# Altium integrated library TI Power Management Special Function.IntLib: 97 symbols (part 1 of 7)
Pins are listed as number, name and electrical type; pins without a type are passive.

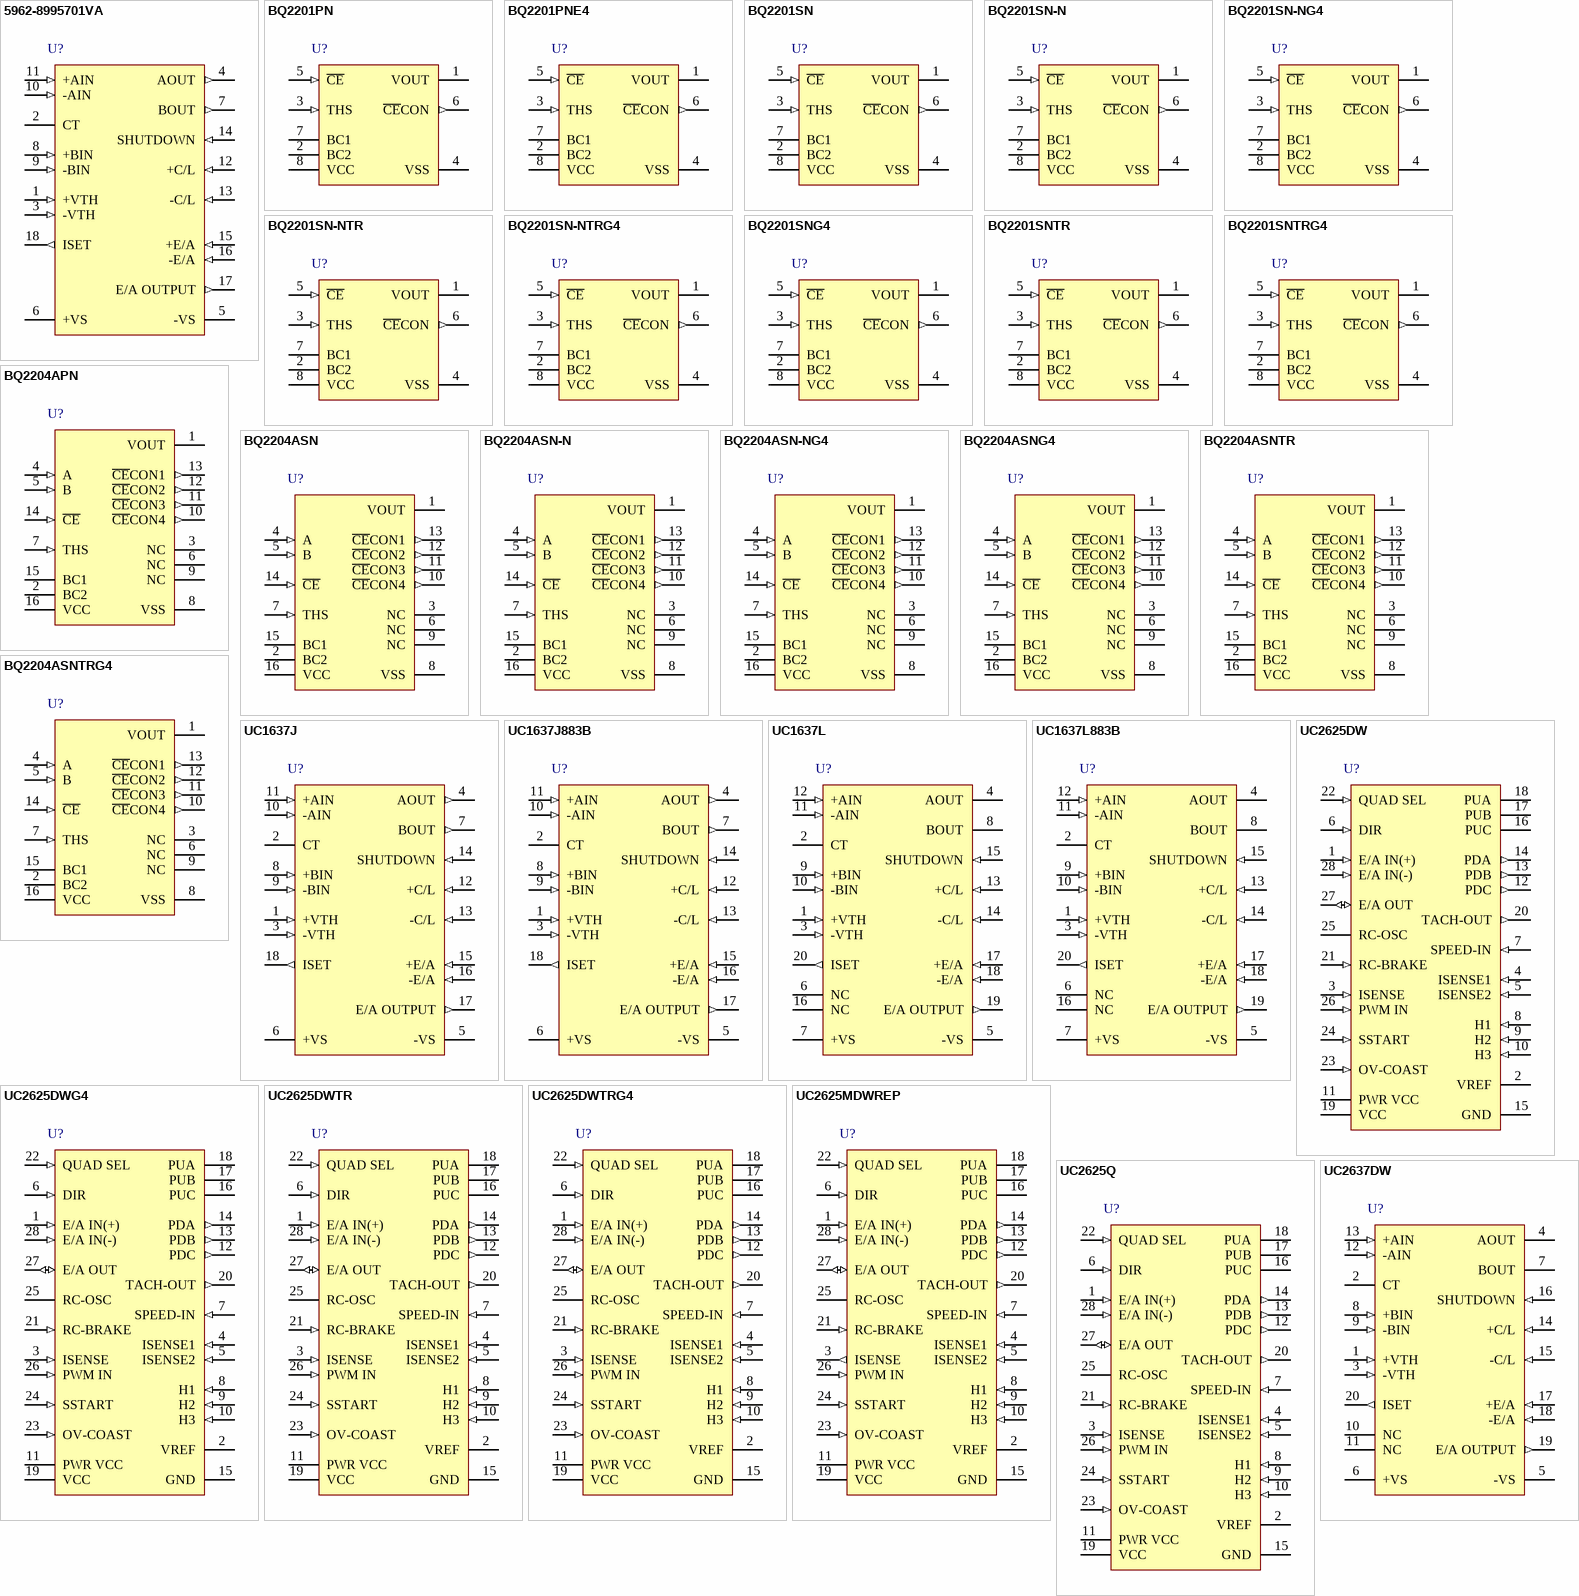
[diagram p0: symbols 5962-8995701VA to UC2637DW]

## 5962-8995701VA
designator U?
Switched Mode Controller for DC Motor Drive, 36 V Operating Supply, -55 to 125 degC, 18-pin CDIP (J); Manufacturer: Texas Instruments; PartNumber: 5962-8995701VA; Current-Limited: TRUE; Eco-Plan: TBD; Operating Supply Current(mA): 8.5; Operating Supply(Max)(V): 36; Operating Supply(Min)(V): 5; Peak Output Current(A): 0.4; SubFamily: Motion/Motor Control; DatasheetVersion: SLUS283; PackageVersion: revF, Mar-2003; PackageReference: J18; PackageDescription: 18-Pin, Ceramic Dual In-Line Package, Row Spacing 7.62 mm, Pitch 2.54 mm; DC Motor Control: TRUE; Switching Control: TRUE; Mounting Technology: Through Hole; ComponentLink1Description: Datasheet; ComponentLink1URL: http://www.ti.com/general/docs/lit/getliterature.tsp?genericPartNumber=UC1637&fileType=pdf
footprint J18 (DIP, 18-Leads, Row Spacing 7.62mm, Pitch 2.54mm, Body 24.1x6.7mm)
pins: 1 +VTH (in), 2 CT, 3 -VTH (in), 4 AOUT (out), 5 -VS (power), 6 +VS (power), 7 BOUT (out), 8 +BIN (in), 9 -BIN (in), 10 -AIN (in), 11 +AIN (in), 12 +C/L (in), 13 -C/L (in), 14 SHUTDOWN (in), 15 +E/A (in), 16 -E/A (in), 17 E/A OUTPUT (out), 18 ISET (out)

## BQ2201PN
designator U?
SRAM Nonvolatile Controller IC for 1 SRAM Bank, 0 to 70 degC, 8-pin PDIP (P), Pb-Free (RoHS); Manufacturer: Texas Instruments; PartNumber: BQ2201PN; Controller: TRUE; SubFamily: NVSRAM (Non-Volatile SRAM); DatasheetVersion: SLUS143; PackageVersion: revE, Apr-2010; PackageReference: P8; PackageDescription: 8-Pin Plastic Dual-In-Line Package, Row Spacing 7.62 mm, Pitch 2.54 mm; Supplier 1: Digi-Key; Supplier Part Number 1: 296-9369-5-ND; Supplier 2: Newark; Supplier Part Number 2: 74C7618; Supplier 3: Mouser; Supplier Part Number 3: 595-BQ2201PN; Eco-Plan: Pb-Free (RoHS); Mounting Technology: Through Hole; Code_JEDEC: MS-001-BA; ComponentLink1Description: Datasheet; ComponentLink1URL: http://www.ti.com/general/docs/lit/getliterature.tsp?genericPartNumber=BQ2201&fileType=pdf
footprint P8 (DIP, 8-Leads, Row Spacing 7.62mm, Pitch 2.54mm, Body 9.6x6.4mm)
pins: 1 VOUT (power) "Supply output", 2 BC2 (power) "3-volt primary backup cell inputs", 3 THS (in) "Threshold select input", 4 VSS (power) "Ground", 5 ~{CE} (in) "chip-enable active low input", 6 ~{CE}CON (out) "Conditioned chip-enable output", 7 BC1 (power) "3-volt primary backup cell inputs", 8 VCC (power) "+5-volt supply input"

## BQ2201PNE4
designator U?
SRAM Nonvolatile Controller IC for 1 SRAM Bank, 0 to 70 degC, 8-pin PDIP (P), Pb-Free (RoHS); Manufacturer: Texas Instruments; PartNumber: BQ2201PNE4; Controller: TRUE; SubFamily: NVSRAM (Non-Volatile SRAM); DatasheetVersion: SLUS143; PackageVersion: revE, Apr-2010; PackageReference: P8; PackageDescription: 8-Pin Plastic Dual-In-Line Package, Row Spacing 7.62 mm, Pitch 2.54 mm; Supplier 1: Digi-Key; Supplier Part Number 1: BQ2201PNE4-ND; Supplier 2: Newark; Supplier Part Number 2: 20M5006; Supplier 3: Mouser; Supplier Part Number 3: 595-BQ2201PNE4; Eco-Plan: Pb-Free (RoHS); Mounting Technology: Through Hole; Code_JEDEC: MS-001-BA; ComponentLink1Description: Datasheet; ComponentLink1URL: http://www.ti.com/general/docs/lit/getliterature.tsp?genericPartNumber=BQ2201&fileType=pdf
footprint P8 (DIP, 8-Leads, Row Spacing 7.62mm, Pitch 2.54mm, Body 9.6x6.4mm)
pins: 1 VOUT (power) "Supply output", 2 BC2 (power) "3-volt primary backup cell inputs", 3 THS (in) "Threshold select input", 4 VSS (power) "Ground", 5 ~{CE} (in) "chip-enable active low input", 6 ~{CE}CON (out) "Conditioned chip-enable output", 7 BC1 (power) "3-volt primary backup cell inputs", 8 VCC (power) "+5-volt supply input"

## BQ2201SN
designator U?
SRAM Nonvolatile Controller IC for 1 SRAM Bank, 0 to 70 degC, 8-pin SOIC (D), Green (RoHS & no Sb / Br); Manufacturer: Texas Instruments; PartNumber: BQ2201SN; Controller: TRUE; SubFamily: NVSRAM (Non-Volatile SRAM); DatasheetVersion: SLUS143; PackageVersion: revM, Jun-2011; PackageReference: D8; PackageDescription: 8-Pin Plastic Small Outline Integrated Circuit, 4.9 x 3.9 mm, Pitch 1.27 mm Pitch; Supplier 1: Digi-Key; Supplier Part Number 1: 296-9370-5-ND; Supplier 2: Farnell; Supplier Part Number 2: 1754748; Supplier 3: Newark; Supplier Part Number 3: 46M3116; Supplier 4: Mouser; Supplier Part Number 4: 595-BQ2201SN; Eco-Plan: Green (RoHS & no Sb/Br); Mounting Technology: Surface Mount; Code_JEDEC: MS-012AA; ComponentLink1Description: Datasheet; ComponentLink1URL: http://www.ti.com/general/docs/lit/getliterature.tsp?genericPartNumber=BQ2201&fileType=pdf
footprint D8_N (SOIC, 8-Leads, Body 4.9x3.9mm, Pitch 1.27mm, IPC Medium Density)
footprint D8_L (SOIC, 8-Leads, Body 4.9x3.9mm, Pitch 1.27mm, IPC High Density)
footprint D8_M (SOIC, 8-Leads, Body 4.9x3.9mm, Pitch 1.27mm, IPC Low Density)
pins: 1 VOUT (power) "Supply output", 2 BC2 (power) "3-volt primary backup cell inputs", 3 THS (in) "Threshold select input", 4 VSS (power) "Ground", 5 ~{CE} (in) "chip-enable active low input", 6 ~{CE}CON (out) "Conditioned chip-enable output", 7 BC1 (power) "3-volt primary backup cell inputs", 8 VCC (power) "+5-volt supply input"

## BQ2201SN-N
designator U?
SRAM Nonvolatile Controller IC for 1 SRAM Bank, -40 to 85 degC, 8-pin SOIC (D), Green (RoHS & no Sb / Br); Manufacturer: Texas Instruments; PartNumber: BQ2201SN-N; Controller: TRUE; SubFamily: NVSRAM (Non-Volatile SRAM); DatasheetVersion: SLUS143; PackageVersion: revM, Jun-2011; PackageReference: D8; PackageDescription: 8-Pin Plastic Small Outline Integrated Circuit, 4.9 x 3.9 mm, Pitch 1.27 mm Pitch; Supplier 1: Digi-Key; Supplier Part Number 1: BQ2201SN-N-ND; Supplier 2: Newark; Supplier Part Number 2: 74C7621; Supplier 3: Mouser; Supplier Part Number 3: 595-BQ2201SN-N; Eco-Plan: Green (RoHS & no Sb/Br); Mounting Technology: Surface Mount; Code_JEDEC: MS-012AA; ComponentLink1Description: Datasheet; ComponentLink1URL: http://www.ti.com/general/docs/lit/getliterature.tsp?genericPartNumber=BQ2201&fileType=pdf
footprint D8_N (SOIC, 8-Leads, Body 4.9x3.9mm, Pitch 1.27mm, IPC Medium Density)
footprint D8_L (SOIC, 8-Leads, Body 4.9x3.9mm, Pitch 1.27mm, IPC High Density)
footprint D8_M (SOIC, 8-Leads, Body 4.9x3.9mm, Pitch 1.27mm, IPC Low Density)
pins: 1 VOUT (power) "Supply output", 2 BC2 (power) "3-volt primary backup cell inputs", 3 THS (in) "Threshold select input", 4 VSS (power) "Ground", 5 ~{CE} (in) "chip-enable active low input", 6 ~{CE}CON (out) "Conditioned chip-enable output", 7 BC1 (power) "3-volt primary backup cell inputs", 8 VCC (power) "+5-volt supply input"

## BQ2201SN-NG4
designator U?
SRAM Nonvolatile Controller IC for 1 SRAM Bank, -40 to 85 degC, 8-pin SOIC (D), Green (RoHS & no Sb / Br); Manufacturer: Texas Instruments; PartNumber: BQ2201SN-NG4; Controller: TRUE; SubFamily: NVSRAM (Non-Volatile SRAM); DatasheetVersion: SLUS143; PackageVersion: revM, Jun-2011; PackageReference: D8; PackageDescription: 8-Pin Plastic Small Outline Integrated Circuit, 4.9 x 3.9 mm, Pitch 1.27 mm Pitch; Supplier 1: Digi-Key; Supplier Part Number 1: BQ2201SN-NG4-ND; Supplier 2: Newark; Supplier Part Number 2: 18M1767; Supplier 3: Mouser; Supplier Part Number 3: 595-BQ2201SN-NG4; Eco-Plan: Green (RoHS & no Sb/Br); Mounting Technology: Surface Mount; Code_JEDEC: MS-012AA; ComponentLink1Description: Datasheet; ComponentLink1URL: http://www.ti.com/general/docs/lit/getliterature.tsp?genericPartNumber=BQ2201&fileType=pdf
footprint D8_N (SOIC, 8-Leads, Body 4.9x3.9mm, Pitch 1.27mm, IPC Medium Density)
footprint D8_L (SOIC, 8-Leads, Body 4.9x3.9mm, Pitch 1.27mm, IPC High Density)
footprint D8_M (SOIC, 8-Leads, Body 4.9x3.9mm, Pitch 1.27mm, IPC Low Density)
pins: 1 VOUT (power) "Supply output", 2 BC2 (power) "3-volt primary backup cell inputs", 3 THS (in) "Threshold select input", 4 VSS (power) "Ground", 5 ~{CE} (in) "chip-enable active low input", 6 ~{CE}CON (out) "Conditioned chip-enable output", 7 BC1 (power) "3-volt primary backup cell inputs", 8 VCC (power) "+5-volt supply input"

## BQ2201SN-NTR
designator U?
SRAM Nonvolatile Controller IC for 1 SRAM Bank, -40 to 85 degC, 8-pin SOIC (D), Green (RoHS & no Sb / Br); Manufacturer: Texas Instruments; PartNumber: BQ2201SN-NTR; Controller: TRUE; SubFamily: NVSRAM (Non-Volatile SRAM); DatasheetVersion: SLUS143; PackageVersion: revM, Jun-2011; PackageReference: D8; PackageDescription: 8-Pin Plastic Small Outline Integrated Circuit, 4.9 x 3.9 mm, Pitch 1.27 mm Pitch; Supplier 1: Digi-Key; Supplier Part Number 1: BQ2201SN-NTR-ND; Supplier 2: Newark; Supplier Part Number 2: 74C7622; Supplier 3: Mouser; Supplier Part Number 3: 595-BQ2201SN-NTR; Eco-Plan: Green (RoHS & no Sb/Br); Mounting Technology: Surface Mount; Code_JEDEC: MS-012AA; ComponentLink1Description: Datasheet; ComponentLink1URL: http://www.ti.com/general/docs/lit/getliterature.tsp?genericPartNumber=BQ2201&fileType=pdf
footprint D8_N (SOIC, 8-Leads, Body 4.9x3.9mm, Pitch 1.27mm, IPC Medium Density)
footprint D8_L (SOIC, 8-Leads, Body 4.9x3.9mm, Pitch 1.27mm, IPC High Density)
footprint D8_M (SOIC, 8-Leads, Body 4.9x3.9mm, Pitch 1.27mm, IPC Low Density)
pins: 1 VOUT (power) "Supply output", 2 BC2 (power) "3-volt primary backup cell inputs", 3 THS (in) "Threshold select input", 4 VSS (power) "Ground", 5 ~{CE} (in) "chip-enable active low input", 6 ~{CE}CON (out) "Conditioned chip-enable output", 7 BC1 (power) "3-volt primary backup cell inputs", 8 VCC (power) "+5-volt supply input"

## BQ2201SN-NTRG4
designator U?
SRAM Nonvolatile Controller IC for 1 SRAM Bank, -40 to 85 degC, 8-pin SOIC (D), Green (RoHS & no Sb / Br); Manufacturer: Texas Instruments; PartNumber: BQ2201SN-NTRG4; Controller: TRUE; SubFamily: NVSRAM (Non-Volatile SRAM); DatasheetVersion: SLUS143; PackageVersion: revM, Jun-2011; PackageReference: D8; PackageDescription: 8-Pin Plastic Small Outline Integrated Circuit, 4.9 x 3.9 mm, Pitch 1.27 mm Pitch; Supplier 1: Digi-Key; Supplier Part Number 1: BQ2201SN-NTRG4-ND; Supplier 2: Newark; Supplier Part Number 2: 03M6535; Supplier 3: Mouser; Supplier Part Number 3: 595-BQ2201SN-NTRG4; Eco-Plan: Green (RoHS & no Sb/Br); Mounting Technology: Surface Mount; Code_JEDEC: MS-012AA; ComponentLink1Description: Datasheet; ComponentLink1URL: http://www.ti.com/general/docs/lit/getliterature.tsp?genericPartNumber=BQ2201&fileType=pdf
footprint D8_N (SOIC, 8-Leads, Body 4.9x3.9mm, Pitch 1.27mm, IPC Medium Density)
footprint D8_L (SOIC, 8-Leads, Body 4.9x3.9mm, Pitch 1.27mm, IPC High Density)
footprint D8_M (SOIC, 8-Leads, Body 4.9x3.9mm, Pitch 1.27mm, IPC Low Density)
pins: 1 VOUT (power) "Supply output", 2 BC2 (power) "3-volt primary backup cell inputs", 3 THS (in) "Threshold select input", 4 VSS (power) "Ground", 5 ~{CE} (in) "chip-enable active low input", 6 ~{CE}CON (out) "Conditioned chip-enable output", 7 BC1 (power) "3-volt primary backup cell inputs", 8 VCC (power) "+5-volt supply input"

## BQ2201SNG4
designator U?
SRAM Nonvolatile Controller IC for 1 SRAM Bank, 0 to 70 degC, 8-pin SOIC (D), Green (RoHS & no Sb / Br); Manufacturer: Texas Instruments; PartNumber: BQ2201SNG4; Controller: TRUE; SubFamily: NVSRAM (Non-Volatile SRAM); DatasheetVersion: SLUS143; PackageVersion: revM, Jun-2011; PackageReference: D8; PackageDescription: 8-Pin Plastic Small Outline Integrated Circuit, 4.9 x 3.9 mm, Pitch 1.27 mm Pitch; Supplier 1: Digi-Key; Supplier Part Number 1: BQ2201SNG4-ND; Supplier 2: Newark; Supplier Part Number 2: 28M4690; Supplier 3: Mouser; Supplier Part Number 3: 595-BQ2201SNG4; Eco-Plan: Green (RoHS & no Sb/Br); Mounting Technology: Surface Mount; Code_JEDEC: MS-012AA; ComponentLink1Description: Datasheet; ComponentLink1URL: http://www.ti.com/general/docs/lit/getliterature.tsp?genericPartNumber=BQ2201&fileType=pdf
footprint D8_N (SOIC, 8-Leads, Body 4.9x3.9mm, Pitch 1.27mm, IPC Medium Density)
footprint D8_L (SOIC, 8-Leads, Body 4.9x3.9mm, Pitch 1.27mm, IPC High Density)
footprint D8_M (SOIC, 8-Leads, Body 4.9x3.9mm, Pitch 1.27mm, IPC Low Density)
pins: 1 VOUT (power) "Supply output", 2 BC2 (power) "3-volt primary backup cell inputs", 3 THS (in) "Threshold select input", 4 VSS (power) "Ground", 5 ~{CE} (in) "chip-enable active low input", 6 ~{CE}CON (out) "Conditioned chip-enable output", 7 BC1 (power) "3-volt primary backup cell inputs", 8 VCC (power) "+5-volt supply input"

## BQ2201SNTR
designator U?
SRAM Nonvolatile Controller IC for 1 SRAM Bank, 0 to 70 degC, 8-pin SOIC (D), Green (RoHS & no Sb / Br); Manufacturer: Texas Instruments; PartNumber: BQ2201SNTR; Controller: TRUE; SubFamily: NVSRAM (Non-Volatile SRAM); DatasheetVersion: SLUS143; PackageVersion: revM, Jun-2011; PackageReference: D8; PackageDescription: 8-Pin Plastic Small Outline Integrated Circuit, 4.9 x 3.9 mm, Pitch 1.27 mm Pitch; Supplier 1: Digi-Key; Supplier Part Number 1: BQ2201SNTR-ND; Supplier 2: Newark; Supplier Part Number 2: 74C7623; Supplier 3: Mouser; Supplier Part Number 3: 595-BQ2201SNTR; Eco-Plan: Green (RoHS & no Sb/Br); Mounting Technology: Surface Mount; Code_JEDEC: MS-012AA; ComponentLink1Description: Datasheet; ComponentLink1URL: http://www.ti.com/general/docs/lit/getliterature.tsp?genericPartNumber=BQ2201&fileType=pdf
footprint D8_N (SOIC, 8-Leads, Body 4.9x3.9mm, Pitch 1.27mm, IPC Medium Density)
footprint D8_L (SOIC, 8-Leads, Body 4.9x3.9mm, Pitch 1.27mm, IPC High Density)
footprint D8_M (SOIC, 8-Leads, Body 4.9x3.9mm, Pitch 1.27mm, IPC Low Density)
pins: 1 VOUT (power) "Supply output", 2 BC2 (power) "3-volt primary backup cell inputs", 3 THS (in) "Threshold select input", 4 VSS (power) "Ground", 5 ~{CE} (in) "chip-enable active low input", 6 ~{CE}CON (out) "Conditioned chip-enable output", 7 BC1 (power) "3-volt primary backup cell inputs", 8 VCC (power) "+5-volt supply input"

## BQ2201SNTRG4
designator U?
SRAM Nonvolatile Controller IC for 1 SRAM Bank, 0 to 70 degC, 8-pin SOIC (D), Green (RoHS & no Sb / Br); Manufacturer: Texas Instruments; PartNumber: BQ2201SNTRG4; Controller: TRUE; SubFamily: NVSRAM (Non-Volatile SRAM); DatasheetVersion: SLUS143; PackageVersion: revM, Jun-2011; PackageReference: D8; PackageDescription: 8-Pin Plastic Small Outline Integrated Circuit, 4.9 x 3.9 mm, Pitch 1.27 mm Pitch; Supplier 1: Digi-Key; Supplier Part Number 1: BQ2201SNTRG4-ND; Supplier 2: Newark; Supplier Part Number 2: 34P3344; Supplier 3: Mouser; Supplier Part Number 3: 595-BQ2201SNTRG4; Eco-Plan: Green (RoHS & no Sb/Br); Mounting Technology: Surface Mount; Code_JEDEC: MS-012AA; ComponentLink1Description: Datasheet; ComponentLink1URL: http://www.ti.com/general/docs/lit/getliterature.tsp?genericPartNumber=BQ2201&fileType=pdf
footprint D8_N (SOIC, 8-Leads, Body 4.9x3.9mm, Pitch 1.27mm, IPC Medium Density)
footprint D8_L (SOIC, 8-Leads, Body 4.9x3.9mm, Pitch 1.27mm, IPC High Density)
footprint D8_M (SOIC, 8-Leads, Body 4.9x3.9mm, Pitch 1.27mm, IPC Low Density)
pins: 1 VOUT (power) "Supply output", 2 BC2 (power) "3-volt primary backup cell inputs", 3 THS (in) "Threshold select input", 4 VSS (power) "Ground", 5 ~{CE} (in) "chip-enable active low input", 6 ~{CE}CON (out) "Conditioned chip-enable output", 7 BC1 (power) "3-volt primary backup cell inputs", 8 VCC (power) "+5-volt supply input"

## BQ2204APN
designator U?
SRAM Nonvolatile Controller IC for 4 SRAM Banks, 0 to 70 degC, 16-pin PDIP (N), Pb-Free (RoHS); Manufacturer: Texas Instruments; PartNumber: BQ2204APN; Controller: TRUE; SubFamily: NVSRAM (Non-Volatile SRAM); DatasheetVersion: SLUS140; PackageVersion: revE, Dec-2002; PackageReference: N16; PackageDescription: 16-Pin Plastic Dual-In-Line Package, Row Spacing 7.62 mm, Pitch 2.54 mm; Supplier 1: Digi-Key; Supplier Part Number 1: 296-9375-5-ND; Supplier 2: Newark; Supplier Part Number 2: 74M8275; Supplier 3: Mouser; Supplier Part Number 3: 595-BQ2204APN; Eco-Plan: Pb-Free (RoHS); Mounting Technology: Through Hole; Code_JEDEC: MS-001*; ComponentLink1Description: Datasheet; ComponentLink1URL: http://www.ti.com/general/docs/lit/getliterature.tsp?genericPartNumber=BQ2204A&fileType=pdf
footprint N16 (DIP, 16-Leads, Row Spacing 7.62mm, Pitch 2.54mm, Body 19.3x6.4mm)
pins: 1 VOUT (power) "Supply output", 2 BC2 (power) "3 volt primary backup cell inputs", 3 NC "No connect", 4 A (in) "Decoder inputs", 5 B (in) "Decoder inputs", 6 NC "No connect", 7 THS (in) "Threshold select input", 8 VSS (power) "Ground", 9 NC "No connect", 10 ~{CE}CON4 (out) "Conditioned chip-enable outputs", 11 ~{CE}CON3 (out) "Conditioned chip-enable outputs", 12 ~{CE}CON2 (out) "Conditioned chip-enable outputs", 13 ~{CE}CON1 (out) "Conditioned chip-enable outputs", 14 ~{CE} (in) "chip-enable active low input", 15 BC1 (power) "3 volt primary backup cell inputs", 16 VCC (power) "+5 volt supply input"

## BQ2204ASN
designator U?
SRAM Nonvolatile Controller IC for 4 SRAM Banks, 0 to 70 degC, 16-pin SOIC (D), Green (RoHS & no Sb / Br); Manufacturer: Texas Instruments; PartNumber: BQ2204ASN; Controller: TRUE; SubFamily: NVSRAM (Non-Volatile SRAM); DatasheetVersion: SLUS140; PackageVersion: revM, Jun-2011; PackageReference: D16; PackageDescription: 16-Pin Plastic Small Outline Integrated Circuit, 9.9 x 3.9 mm, Pitch 1.27 mm Pitch; Supplier 1: Digi-Key; Supplier Part Number 1: 296-9376-5-ND; Supplier 2: Newark; Supplier Part Number 2: 74C7625; Supplier 3: Mouser; Supplier Part Number 3: 595-BQ2204ASN; Eco-Plan: Green (RoHS & no Sb/Br); Mounting Technology: Surface Mount; Code_JEDEC: MS-012AC; ComponentLink1Description: Datasheet; ComponentLink1URL: http://www.ti.com/general/docs/lit/getliterature.tsp?genericPartNumber=BQ2204A&fileType=pdf
footprint D16_N (SOIC, 16-Leads, Body 9.9x3.9mm, Pitch 1.27mm, IPC Medium Density)
footprint D16_L (SOIC, 16-Leads, Body 9.9x3.9mm, Pitch 1.27mm, IPC High Density)
footprint D16_M (SOIC, 16-Leads, Body 9.9x3.9mm, Pitch 1.27mm, IPC Low Density)
pins: 1 VOUT (power) "Supply output", 2 BC2 (power) "3 volt primary backup cell inputs", 3 NC "No connect", 4 A (in) "Decoder inputs", 5 B (in) "Decoder inputs", 6 NC "No connect", 7 THS (in) "Threshold select input", 8 VSS (power) "Ground", 9 NC "No connect", 10 ~{CE}CON4 (out) "Conditioned chip-enable outputs", 11 ~{CE}CON3 (out) "Conditioned chip-enable outputs", 12 ~{CE}CON2 (out) "Conditioned chip-enable outputs", 13 ~{CE}CON1 (out) "Conditioned chip-enable outputs", 14 ~{CE} (in) "chip-enable active low input", 15 BC1 (power) "3 volt primary backup cell inputs", 16 VCC (power) "+5 volt supply input"

## BQ2204ASN-N
designator U?
SRAM Nonvolatile Controller IC for 4 SRAM Banks, -40 to 85 degC, 16-pin SOIC (D), Green (RoHS & no Sb / Br); Manufacturer: Texas Instruments; PartNumber: BQ2204ASN-N; Controller: TRUE; SubFamily: NVSRAM (Non-Volatile SRAM); DatasheetVersion: SLUS140; PackageVersion: revM, Jun-2011; PackageReference: D16; PackageDescription: 16-Pin Plastic Small Outline Integrated Circuit, 9.9 x 3.9 mm, Pitch 1.27 mm Pitch; Supplier 1: Digi-Key; Supplier Part Number 1: BQ2204ASN-N-ND; Supplier 2: Newark; Supplier Part Number 2: 74C7626; Supplier 3: Mouser; Supplier Part Number 3: 595-BQ2204ASN-N; Eco-Plan: Green (RoHS & no Sb/Br); Mounting Technology: Surface Mount; Code_JEDEC: MS-012AC; ComponentLink1Description: Datasheet; ComponentLink1URL: http://www.ti.com/general/docs/lit/getliterature.tsp?genericPartNumber=BQ2204A&fileType=pdf
footprint D16_N (SOIC, 16-Leads, Body 9.9x3.9mm, Pitch 1.27mm, IPC Medium Density)
footprint D16_L (SOIC, 16-Leads, Body 9.9x3.9mm, Pitch 1.27mm, IPC High Density)
footprint D16_M (SOIC, 16-Leads, Body 9.9x3.9mm, Pitch 1.27mm, IPC Low Density)
pins: 1 VOUT (power) "Supply output", 2 BC2 (power) "3 volt primary backup cell inputs", 3 NC "No connect", 4 A (in) "Decoder inputs", 5 B (in) "Decoder inputs", 6 NC "No connect", 7 THS (in) "Threshold select input", 8 VSS (power) "Ground", 9 NC "No connect", 10 ~{CE}CON4 (out) "Conditioned chip-enable outputs", 11 ~{CE}CON3 (out) "Conditioned chip-enable outputs", 12 ~{CE}CON2 (out) "Conditioned chip-enable outputs", 13 ~{CE}CON1 (out) "Conditioned chip-enable outputs", 14 ~{CE} (in) "chip-enable active low input", 15 BC1 (power) "3 volt primary backup cell inputs", 16 VCC (power) "+5 volt supply input"

## BQ2204ASN-NG4
designator U?
SRAM Nonvolatile Controller IC for 4 SRAM Banks, -40 to 85 degC, 16-pin SOIC (D), Green (RoHS & no Sb / Br); Manufacturer: Texas Instruments; PartNumber: BQ2204ASN-NG4; Controller: TRUE; SubFamily: NVSRAM (Non-Volatile SRAM); DatasheetVersion: SLUS140; PackageVersion: revM, Jun-2011; PackageReference: D16; PackageDescription: 16-Pin Plastic Small Outline Integrated Circuit, 9.9 x 3.9 mm, Pitch 1.27 mm Pitch; Supplier 1: Digi-Key; Supplier Part Number 1: BQ2204ASN-NG4-ND; Supplier 2: Newark; Supplier Part Number 2: 33M8724; Supplier 3: Mouser; Supplier Part Number 3: 595-BQ2204ASN-NG4; Eco-Plan: Green (RoHS & no Sb/Br); Mounting Technology: Surface Mount; Code_JEDEC: MS-012AC; ComponentLink1Description: Datasheet; ComponentLink1URL: http://www.ti.com/general/docs/lit/getliterature.tsp?genericPartNumber=BQ2204A&fileType=pdf
footprint D16_N (SOIC, 16-Leads, Body 9.9x3.9mm, Pitch 1.27mm, IPC Medium Density)
footprint D16_L (SOIC, 16-Leads, Body 9.9x3.9mm, Pitch 1.27mm, IPC High Density)
footprint D16_M (SOIC, 16-Leads, Body 9.9x3.9mm, Pitch 1.27mm, IPC Low Density)
pins: 1 VOUT (power) "Supply output", 2 BC2 (power) "3 volt primary backup cell inputs", 3 NC "No connect", 4 A (in) "Decoder inputs", 5 B (in) "Decoder inputs", 6 NC "No connect", 7 THS (in) "Threshold select input", 8 VSS (power) "Ground", 9 NC "No connect", 10 ~{CE}CON4 (out) "Conditioned chip-enable outputs", 11 ~{CE}CON3 (out) "Conditioned chip-enable outputs", 12 ~{CE}CON2 (out) "Conditioned chip-enable outputs", 13 ~{CE}CON1 (out) "Conditioned chip-enable outputs", 14 ~{CE} (in) "chip-enable active low input", 15 BC1 (power) "3 volt primary backup cell inputs", 16 VCC (power) "+5 volt supply input"

## BQ2204ASNG4
designator U?
SRAM Nonvolatile Controller IC for 4 SRAM Banks, 0 to 70 degC, 16-pin SOIC (D), Green (RoHS & no Sb / Br); Manufacturer: Texas Instruments; PartNumber: BQ2204ASNG4; Controller: TRUE; SubFamily: NVSRAM (Non-Volatile SRAM); DatasheetVersion: SLUS140; PackageVersion: revM, Jun-2011; PackageReference: D16; PackageDescription: 16-Pin Plastic Small Outline Integrated Circuit, 9.9 x 3.9 mm, Pitch 1.27 mm Pitch; Supplier 1: Digi-Key; Supplier Part Number 1: BQ2204ASNG4-ND; Supplier 2: Newark; Supplier Part Number 2: 06M7011; Supplier 3: Mouser; Supplier Part Number 3: 595-BQ2204ASNG4; Eco-Plan: Green (RoHS & no Sb/Br); Mounting Technology: Surface Mount; Code_JEDEC: MS-012AC; ComponentLink1Description: Datasheet; ComponentLink1URL: http://www.ti.com/general/docs/lit/getliterature.tsp?genericPartNumber=BQ2204A&fileType=pdf
footprint D16_N (SOIC, 16-Leads, Body 9.9x3.9mm, Pitch 1.27mm, IPC Medium Density)
footprint D16_L (SOIC, 16-Leads, Body 9.9x3.9mm, Pitch 1.27mm, IPC High Density)
footprint D16_M (SOIC, 16-Leads, Body 9.9x3.9mm, Pitch 1.27mm, IPC Low Density)
pins: 1 VOUT (power) "Supply output", 2 BC2 (power) "3 volt primary backup cell inputs", 3 NC "No connect", 4 A (in) "Decoder inputs", 5 B (in) "Decoder inputs", 6 NC "No connect", 7 THS (in) "Threshold select input", 8 VSS (power) "Ground", 9 NC "No connect", 10 ~{CE}CON4 (out) "Conditioned chip-enable outputs", 11 ~{CE}CON3 (out) "Conditioned chip-enable outputs", 12 ~{CE}CON2 (out) "Conditioned chip-enable outputs", 13 ~{CE}CON1 (out) "Conditioned chip-enable outputs", 14 ~{CE} (in) "chip-enable active low input", 15 BC1 (power) "3 volt primary backup cell inputs", 16 VCC (power) "+5 volt supply input"

## BQ2204ASNTR
designator U?
SRAM Nonvolatile Controller IC for 4 SRAM Banks, 0 to 70 degC, 16-pin SOIC (D), Green (RoHS & no Sb / Br); Manufacturer: Texas Instruments; PartNumber: BQ2204ASNTR; Controller: TRUE; SubFamily: NVSRAM (Non-Volatile SRAM); DatasheetVersion: SLUS140; PackageVersion: revM, Jun-2011; PackageReference: D16; PackageDescription: 16-Pin Plastic Small Outline Integrated Circuit, 9.9 x 3.9 mm, Pitch 1.27 mm Pitch; Supplier 1: Digi-Key; Supplier Part Number 1: BQ2204ASNTR-ND; Supplier 2: Newark; Supplier Part Number 2: 74C7628; Supplier 3: Mouser; Supplier Part Number 3: 595-BQ2204ASNTR; Eco-Plan: Green (RoHS & no Sb/Br); Mounting Technology: Surface Mount; Code_JEDEC: MS-012AC; ComponentLink1Description: Datasheet; ComponentLink1URL: http://www.ti.com/general/docs/lit/getliterature.tsp?genericPartNumber=BQ2204A&fileType=pdf
footprint D16_N (SOIC, 16-Leads, Body 9.9x3.9mm, Pitch 1.27mm, IPC Medium Density)
footprint D16_L (SOIC, 16-Leads, Body 9.9x3.9mm, Pitch 1.27mm, IPC High Density)
footprint D16_M (SOIC, 16-Leads, Body 9.9x3.9mm, Pitch 1.27mm, IPC Low Density)
pins: 1 VOUT (power) "Supply output", 2 BC2 (power) "3 volt primary backup cell inputs", 3 NC "No connect", 4 A (in) "Decoder inputs", 5 B (in) "Decoder inputs", 6 NC "No connect", 7 THS (in) "Threshold select input", 8 VSS (power) "Ground", 9 NC "No connect", 10 ~{CE}CON4 (out) "Conditioned chip-enable outputs", 11 ~{CE}CON3 (out) "Conditioned chip-enable outputs", 12 ~{CE}CON2 (out) "Conditioned chip-enable outputs", 13 ~{CE}CON1 (out) "Conditioned chip-enable outputs", 14 ~{CE} (in) "chip-enable active low input", 15 BC1 (power) "3 volt primary backup cell inputs", 16 VCC (power) "+5 volt supply input"

## BQ2204ASNTRG4
designator U?
SRAM Nonvolatile Controller IC for 4 SRAM Banks, 0 to 70 degC, 16-pin SOIC (D), Green (RoHS & no Sb / Br); Manufacturer: Texas Instruments; PartNumber: BQ2204ASNTRG4; Controller: TRUE; SubFamily: NVSRAM (Non-Volatile SRAM); DatasheetVersion: SLUS140; PackageVersion: revM, Jun-2011; PackageReference: D16; PackageDescription: 16-Pin Plastic Small Outline Integrated Circuit, 9.9 x 3.9 mm, Pitch 1.27 mm Pitch; Supplier 1: Digi-Key; Supplier Part Number 1: BQ2204ASNTRG4-ND; Supplier 2: Newark; Supplier Part Number 2: 81K0111; Supplier 3: Mouser; Supplier Part Number 3: 595-BQ2204ASNTRG4; Eco-Plan: Green (RoHS & no Sb/Br); Mounting Technology: Surface Mount; Code_JEDEC: MS-012AC; ComponentLink1Description: Datasheet; ComponentLink1URL: http://www.ti.com/general/docs/lit/getliterature.tsp?genericPartNumber=BQ2204A&fileType=pdf
footprint D16_N (SOIC, 16-Leads, Body 9.9x3.9mm, Pitch 1.27mm, IPC Medium Density)
footprint D16_L (SOIC, 16-Leads, Body 9.9x3.9mm, Pitch 1.27mm, IPC High Density)
footprint D16_M (SOIC, 16-Leads, Body 9.9x3.9mm, Pitch 1.27mm, IPC Low Density)
pins: 1 VOUT (power) "Supply output", 2 BC2 (power) "3 volt primary backup cell inputs", 3 NC "No connect", 4 A (in) "Decoder inputs", 5 B (in) "Decoder inputs", 6 NC "No connect", 7 THS (in) "Threshold select input", 8 VSS (power) "Ground", 9 NC "No connect", 10 ~{CE}CON4 (out) "Conditioned chip-enable outputs", 11 ~{CE}CON3 (out) "Conditioned chip-enable outputs", 12 ~{CE}CON2 (out) "Conditioned chip-enable outputs", 13 ~{CE}CON1 (out) "Conditioned chip-enable outputs", 14 ~{CE} (in) "chip-enable active low input", 15 BC1 (power) "3 volt primary backup cell inputs", 16 VCC (power) "+5 volt supply input"

## UC1637J
designator U?
Switched Mode Controller for DC Motor Drive, 36 V Operating Supply, -55 to 125 degC, 18-pin CDIP (J); Manufacturer: Texas Instruments; PartNumber: UC1637J; Current-Limited: TRUE; Eco-Plan: TBD; Operating Supply Current(mA): 8.5; Operating Supply(Max)(V): 36; Operating Supply(Min)(V): 5; Peak Output Current(A): 0.4; SubFamily: Motion/Motor Control; DatasheetVersion: SLUS283; PackageVersion: revF, Mar-2003; PackageReference: J18; PackageDescription: 18-Pin, Ceramic Dual In-Line Package, Row Spacing 7.62 mm, Pitch 2.54 mm; DC Motor Control: TRUE; Switching Control: TRUE; Mounting Technology: Through Hole; ComponentLink1Description: Datasheet; ComponentLink1URL: http://www.ti.com/general/docs/lit/getliterature.tsp?genericPartNumber=UC1637&fileType=pdf
footprint J18 (DIP, 18-Leads, Row Spacing 7.62mm, Pitch 2.54mm, Body 24.1x6.7mm)
pins: 1 +VTH (in), 2 CT, 3 -VTH (in), 4 AOUT (out), 5 -VS (power), 6 +VS (power), 7 BOUT (out), 8 +BIN (in), 9 -BIN (in), 10 -AIN (in), 11 +AIN (in), 12 +C/L (in), 13 -C/L (in), 14 SHUTDOWN (in), 15 +E/A (in), 16 -E/A (in), 17 E/A OUTPUT (out), 18 ISET (out)

## UC1637J883B
designator U?
Switched Mode Controller for DC Motor Drive, 36 V Operating Supply, -55 to 125 degC, 18-pin CDIP (J); Manufacturer: Texas Instruments; PartNumber: UC1637J883B; Current-Limited: TRUE; Eco-Plan: TBD; Operating Supply Current(mA): 8.5; Operating Supply(Max)(V): 36; Operating Supply(Min)(V): 5; Peak Output Current(A): 0.4; SubFamily: Motion/Motor Control; DatasheetVersion: SLUS283; PackageVersion: revF, Mar-2003; PackageReference: J18; PackageDescription: 18-Pin, Ceramic Dual In-Line Package, Row Spacing 7.62 mm, Pitch 2.54 mm; DC Motor Control: TRUE; Switching Control: TRUE; Mounting Technology: Through Hole; ComponentLink1Description: Datasheet; ComponentLink1URL: http://www.ti.com/general/docs/lit/getliterature.tsp?genericPartNumber=UC1637&fileType=pdf
footprint J18 (DIP, 18-Leads, Row Spacing 7.62mm, Pitch 2.54mm, Body 24.1x6.7mm)
pins: 1 +VTH (in), 2 CT, 3 -VTH (in), 4 AOUT (out), 5 -VS (power), 6 +VS (power), 7 BOUT (out), 8 +BIN (in), 9 -BIN (in), 10 -AIN (in), 11 +AIN (in), 12 +C/L (in), 13 -C/L (in), 14 SHUTDOWN (in), 15 +E/A (in), 16 -E/A (in), 17 E/A OUTPUT (out), 18 ISET (out)

## UC1637L
designator U?
Switched Mode Controller for DC Motor Drive, 36 V Operating Supply, -55 to 125 degC, 20-pin LCCC (FK); Manufacturer: Texas Instruments; PartNumber: UC1637L; Current-Limited: TRUE; Eco-Plan: TBD; Operating Supply Current(mA): 8.5; Operating Supply(Max)(V): 36; Operating Supply(Min)(V): 5; Peak Output Current(A): 0.4; SubFamily: Motion/Motor Control; DatasheetVersion: SLUS283; PackageVersion: revD, Jan-2011; PackageReference: FK20; PackageDescription: 20-Pin Leadless Ceramic Chip Carrier, 1.27 mm Pitch; DC Motor Control: TRUE; Switching Control: TRUE; Mounting Technology: Surface Mount; Code_JEDEC: MS-004; ComponentLink1Description: Datasheet; ComponentLink1URL: http://www.ti.com/general/docs/lit/getliterature.tsp?genericPartNumber=UC1637&fileType=pdf
footprint FK20_N (Leadless Chip Carrier, 20-Leads, Body 8.9x8.9mm, Pitch 1.27mm, IPC Medium Density)
footprint FK20_L (Leadless Chip Carrier, 20-Leads, Body 8.9x8.9mm, Pitch 1.27mm, IPC High Density)
footprint FK20_M (Leadless Chip Carrier, 20-Leads, Body 8.9x8.9mm, Pitch 1.27mm, IPC Low Density)
pins: 1 +VTH (in), 2 CT, 3 -VTH (in), 4 AOUT (power), 5 -VS (power), 6 NC, 7 +VS (power), 8 BOUT (power), 9 +BIN (in), 10 -BIN (in), 11 -AIN (in), 12 +AIN (in), 13 +C/L (in), 14 -C/L (in), 15 SHUTDOWN (in), 16 NC, 17 +E/A (in), 18 -E/A (in), 19 E/A OUTPUT (out), 20 ISET (out)

## UC1637L883B
designator U?
Switched Mode Controller for DC Motor Drive, 36 V Operating Supply, -55 to 125 degC, 20-pin LCCC (FK); Manufacturer: Texas Instruments; PartNumber: UC1637L883B; Current-Limited: TRUE; Eco-Plan: TBD; Operating Supply Current(mA): 8.5; Operating Supply(Max)(V): 36; Operating Supply(Min)(V): 5; Peak Output Current(A): 0.4; SubFamily: Motion/Motor Control; DatasheetVersion: SLUS283; PackageVersion: revD, Jan-2011; PackageReference: FK20; PackageDescription: 20-Pin Leadless Ceramic Chip Carrier, 1.27 mm Pitch; DC Motor Control: TRUE; Switching Control: TRUE; Mounting Technology: Surface Mount; Code_JEDEC: MS-004; ComponentLink1Description: Datasheet; ComponentLink1URL: http://www.ti.com/general/docs/lit/getliterature.tsp?genericPartNumber=UC1637&fileType=pdf
footprint FK20_N (Leadless Chip Carrier, 20-Leads, Body 8.9x8.9mm, Pitch 1.27mm, IPC Medium Density)
footprint FK20_L (Leadless Chip Carrier, 20-Leads, Body 8.9x8.9mm, Pitch 1.27mm, IPC High Density)
footprint FK20_M (Leadless Chip Carrier, 20-Leads, Body 8.9x8.9mm, Pitch 1.27mm, IPC Low Density)
pins: 1 +VTH (in), 2 CT, 3 -VTH (in), 4 AOUT (power), 5 -VS (power), 6 NC, 7 +VS (power), 8 BOUT (power), 9 +BIN (in), 10 -BIN (in), 11 -AIN (in), 12 +AIN (in), 13 +C/L (in), 14 -C/L (in), 15 SHUTDOWN (in), 16 NC, 17 +E/A (in), 18 -E/A (in), 19 E/A OUTPUT (out), 20 ISET (out)

## UC2625DW
designator U?
Brushless DC Motor Controller, 18 V Operating Supply, -40 to 85 degC, 28-pin SOIC (DW), Green (RoHS & no Sb/Br); Manufacturer: Texas Instruments; PartNumber: UC2625DW; Brushless DC Motor Control: TRUE; Operating Supply Current(mA): 14.5; Operating Supply(Max)(V): 18; Operating Supply(Min)(V): 10; Peak Output Current(A): 0.5; SubFamily: Motion/Motor Control; DatasheetVersion: SLUS353B; PackageVersion: revG, Jan-2011; PackageReference: DW28; PackageDescription: 28-Pin Plastic Small Outline Integrated Circuit, 17.9 x 7.5 mm, Pitch 1.27 mm Pitch; Supplier 1: Digi-Key; Supplier Part Number 1: 296-11162-5-ND; Supplier 2: Newark; Supplier Part Number 2: 01C2083; Supplier 3: Mouser; Supplier Part Number 3: 595-UC2625DW; Current-Limited: TRUE; Diff Curr Sense Amp: TRUE; Eco-Plan: Green (RoHS & no Sb/Br); Switching Control: TRUE; Tachometer: TRUE; Mounting Technology: Surface Mount; Code_JEDEC: MS-013-AE; ComponentLink1Description: Datasheet; ComponentLink1URL: http://www.ti.com/general/docs/lit/getliterature.tsp?genericPartNumber=UC2625&fileType=pdf
footprint DW28_N (SOIC, 28-Leads, Body 17.9x7.5mm, Pitch 1.27mm, IPC Medium Density)
footprint DW28_L (SOIC, 28-Leads, Body 17.9x7.5mm, Pitch 1.27mm, IPC High Density)
footprint DW28_M (SOIC, 28-Leads, Body 17.9x7.5mm, Pitch 1.27mm, IPC Low Density)
pins: 1 E/A IN(+) (in) "E/A IN(+) and E/A IN(-) are not internally committed to allow for a wide variety of uses. They can be connected to the ISENSE, to TACH-OUT through a filter, to an external command voltage, to a D/A converter for computer (See Datasheet)", 2 VREF (power) "This pin provides regulated 5 V for driving Hall-effect devices and speed control circuitry. VREF reachs 5 V before VCC enables, ensuring that Hall-effect devices powered from VREF becomes active before the UC3625 drives any (See Datasheet)", 3 ISENSE (in) "The current sense amplifier has a fixed gain of approximately two. It also has a built-in level shift of approximately 2.5 V. The signal appearing on ISENSE is: ISENSE = 2.5 V + (2 x ABS ( ISENSE1 - ISENSE2) ) ISENSE1 and (See Datasheet)", 4 ISENSE1 (in) "The current sense amplifier has a fixed gain of approximately two. It also has a built-in level shift of approximately 2.5 V. The signal appearing on ISENSE is: ISENSE = 2.5 V + (2 x ABS ( ISENSE1 - ISENSE2) ) ISENSE1 and (See Datasheet)", 5 ISENSE2 (in) "The current sense amplifier has a fixed gain of approximately two. It also has a built-in level shift of approximately 2.5 V. The signal appearing on ISENSE is: ISENSE = 2.5 V + (2 x ABS ( ISENSE1 - ISENSE2) ) ISENSE1 and (See Datasheet)", 6 DIR (in) "The position decoder logic translates the Hall signals and the DIR signal to the correct driver signals (PUs and PDs). To prevent output stage damage,the signal on DIR is first loaded into a direction latch, then shifted (See Datasheet)", 7 SPEED-IN (in) "The position decoder logic translates the Hall signals and the DIR signal to the correct driver signals (PUs and PDs). To prevent output stage damage,the signal on DIR is first loaded into a direction latch, then shifted (See Datasheet)", 8 H1 (in) "The three shaft position sensor inputs consist of hysteresis comparators with input pull-up resistors. Logic thresholds meet TTL specifications and can be driven by 5-V CMOS, 12-V CMOS, NMOS, or open-collectors. Connect (See Datasheet)", 9 H2 (in) "The three shaft position sensor inputs consist of hysteresis comparators with input pull-up resistors. Logic thresholds meet TTL specifications and can be driven by 5-V CMOS, 12-V CMOS, NMOS, or open-collectors. Connect (See Datasheet)", 10 H3 (in) "The three shaft position sensor inputs consist of hysteresis comparators with input pull-up resistors. Logic thresholds meet TTL specifications and can be driven by 5-V CMOS, 12-V CMOS, NMOS, or open-collectors. Connect (See Datasheet)", 11 PWR VCC (power) "This supply pin carries the current sourced by the PD outputs. When connecting PD outputs directly to the bases of power Darlingtons, the PWR VCC pin can be current limited with a resistor. Darlington outputs can also be (See Datasheet)", 12 PDC (out) "These outputs can drive the gates of N-channel power MOSFETs directly or they can drive the bases of power Darlingtons if some form of current limiting is used. They are meant to drive low-side power devices in high-current (See Datasheet)", 13 PDB (out) "These outputs can drive the gates of N-channel power MOSFETs directly or they can drive the bases of power Darlingtons if some form of current limiting is used. They are meant to drive low-side power devices in high-current (See Datasheet)", 14 PDA (out) "These outputs can drive the gates of N-channel power MOSFETs directly or they can drive the bases of power Darlingtons if some form of current limiting is used. They are meant to drive low-side power devices in high-current (See Datasheet)", 15 GND (power) "All thresholds and outputs are referred to the GND pin except for the PD and PU outputs.", 16 PUC (oc) "These outputs are open-collector, high-voltage drivers that are meant to drive high-side power devices in high-current output stages.These are active low outputs, meaning that these outputs pull low to command a high-side (See Datasheet)", 17 PUB (oc) "These outputs are open-collector, high-voltage drivers that are meant to drive high-side power devices in high-current output stages.These are active low outputs, meaning that these outputs pull low to command a high-side (See Datasheet)", 18 PUA (oc) "These outputs are open-collector, high-voltage drivers that are meant to drive high-side power devices in high-current output stages.These are active low outputs, meaning that these outputs pull low to command a high-side (See Datasheet)", 19 VCC (power) "This device operates with supplies between 10 V and 18 V. Under-voltage lockout keeps all outputs off below 7.5 V, insuring that the output transistors never turn on until full drive capability is available. Bypass VCC to (See Datasheet)", 20 TACH-OUT (out) "Any change in the H1, H2, or H3 inputs loads data from these inputs into the position sensor latches. At the same time data is loaded, a fixed-width 5-V pulse is triggered on TACH-OUT. The average value of the voltage on (See Datasheet)", 21 RC-BRAKE (in) "Each time the TACH-OUT pulses, the capacitor tied to RC-BRAKE discharges from approximately 3.33 V down to 1.67 V through a resistor. The tachometer pulse width is approximately T = 0.67 RT CT, where RT and CT are a resistor (See Datasheet)", 22 QUAD SEL (in) "The device can chop power devices in either of two modes, referred to as "two-quadrant" (Quad Sellow) and "four quadrant" (Quad Sel high). When two-quadrant chopping, the pull-down power devices are chopped by the output of (See Datasheet)", 23 OV-COAST (in) "This input can be used as an over-voltage shut-down input, as a coast input, or both. This input can be driven by TTL, 5-V CMOS, or 12-V CMOS.", 24 SSTART (in) "Any time that VCC drops below threshold or the sensed current exceeds the over-current threshold, the soft-start latch is set. When set, it turns on a transistor that pulls down on SSTART. Normally, a capacitor is connected (See Datasheet)", 25 RC-OSC "The UC3625 can regulate motor current using fixed-frequency pulse width modulation (PWM). The RC-OSC pin sets oscillator frequency by means of timing resistor ROSC from the RC-OSC pin to VREF and capacitor COSC from RC-OSC (See Datasheet)", 26 PWM IN (in) "E/A IN(+) and E/A IN(-) are not internally committed to allow for a wide variety of uses. They can be connected to the ISENSE, to TACH-OUT through a filter, to an external command voltage, to a D/A converter for computer (See Datasheet)", 27 E/A OUT (io) "E/A IN(+) and E/A IN(-) are not internally committed to allow for a wide variety of uses. They can be connected to the ISENSE, to TACH-OUT through a filter, to an external command voltage, to a D/A converter for computer (See Datasheet)", 28 E/A IN(-) (in) "E/A IN(+) and E/A IN(-) are not internally committed to allow for a wide variety of uses. They can be connected to the ISENSE, to TACH-OUT through a filter, to an external command voltage, to a D/A converter for computer (See Datasheet)"

## UC2625DWG4
designator U?
Brushless DC Motor Controller, 18 V Operating Supply, -40 to 85 degC, 28-pin SOIC (DW), Green (RoHS & no Sb/Br); Manufacturer: Texas Instruments; PartNumber: UC2625DWG4; Brushless DC Motor Control: TRUE; Operating Supply Current(mA): 14.5; Operating Supply(Max)(V): 18; Operating Supply(Min)(V): 10; Peak Output Current(A): 0.5; SubFamily: Motion/Motor Control; DatasheetVersion: SLUS353B; PackageVersion: revG, Jan-2011; PackageReference: DW28; PackageDescription: 28-Pin Plastic Small Outline Integrated Circuit, 17.9 x 7.5 mm, Pitch 1.27 mm Pitch; Supplier 1: Digi-Key; Supplier Part Number 1: UC2625DWG4-ND; Supplier 2: Newark; Supplier Part Number 2: 85K1820; Supplier 3: Mouser; Supplier Part Number 3: 595-UC2625DWG4; Current-Limited: TRUE; Diff Curr Sense Amp: TRUE; Eco-Plan: Green (RoHS & no Sb/Br); Switching Control: TRUE; Tachometer: TRUE; Mounting Technology: Surface Mount; Code_JEDEC: MS-013-AE; ComponentLink1Description: Datasheet; ComponentLink1URL: http://www.ti.com/general/docs/lit/getliterature.tsp?genericPartNumber=UC2625&fileType=pdf
footprint DW28_N (SOIC, 28-Leads, Body 17.9x7.5mm, Pitch 1.27mm, IPC Medium Density)
footprint DW28_L (SOIC, 28-Leads, Body 17.9x7.5mm, Pitch 1.27mm, IPC High Density)
footprint DW28_M (SOIC, 28-Leads, Body 17.9x7.5mm, Pitch 1.27mm, IPC Low Density)
pins: 1 E/A IN(+) (in) "E/A IN(+) and E/A IN(-) are not internally committed to allow for a wide variety of uses. They can be connected to the ISENSE, to TACH-OUT through a filter, to an external command voltage, to a D/A converter for computer (See Datasheet)", 2 VREF (power) "This pin provides regulated 5 V for driving Hall-effect devices and speed control circuitry. VREF reachs 5 V before VCC enables, ensuring that Hall-effect devices powered from VREF becomes active before the UC3625 drives any (See Datasheet)", 3 ISENSE (in) "The current sense amplifier has a fixed gain of approximately two. It also has a built-in level shift of approximately 2.5 V. The signal appearing on ISENSE is: ISENSE = 2.5 V + (2 x ABS ( ISENSE1 - ISENSE2) ) ISENSE1 and (See Datasheet)", 4 ISENSE1 (in) "The current sense amplifier has a fixed gain of approximately two. It also has a built-in level shift of approximately 2.5 V. The signal appearing on ISENSE is: ISENSE = 2.5 V + (2 x ABS ( ISENSE1 - ISENSE2) ) ISENSE1 and (See Datasheet)", 5 ISENSE2 (in) "The current sense amplifier has a fixed gain of approximately two. It also has a built-in level shift of approximately 2.5 V. The signal appearing on ISENSE is: ISENSE = 2.5 V + (2 x ABS ( ISENSE1 - ISENSE2) ) ISENSE1 and (See Datasheet)", 6 DIR (in) "The position decoder logic translates the Hall signals and the DIR signal to the correct driver signals (PUs and PDs). To prevent output stage damage,the signal on DIR is first loaded into a direction latch, then shifted (See Datasheet)", 7 SPEED-IN (in) "The position decoder logic translates the Hall signals and the DIR signal to the correct driver signals (PUs and PDs). To prevent output stage damage,the signal on DIR is first loaded into a direction latch, then shifted (See Datasheet)", 8 H1 (in) "The three shaft position sensor inputs consist of hysteresis comparators with input pull-up resistors. Logic thresholds meet TTL specifications and can be driven by 5-V CMOS, 12-V CMOS, NMOS, or open-collectors. Connect (See Datasheet)", 9 H2 (in) "The three shaft position sensor inputs consist of hysteresis comparators with input pull-up resistors. Logic thresholds meet TTL specifications and can be driven by 5-V CMOS, 12-V CMOS, NMOS, or open-collectors. Connect (See Datasheet)", 10 H3 (in) "The three shaft position sensor inputs consist of hysteresis comparators with input pull-up resistors. Logic thresholds meet TTL specifications and can be driven by 5-V CMOS, 12-V CMOS, NMOS, or open-collectors. Connect (See Datasheet)", 11 PWR VCC (power) "This supply pin carries the current sourced by the PD outputs. When connecting PD outputs directly to the bases of power Darlingtons, the PWR VCC pin can be current limited with a resistor. Darlington outputs can also be (See Datasheet)", 12 PDC (out) "These outputs can drive the gates of N-channel power MOSFETs directly or they can drive the bases of power Darlingtons if some form of current limiting is used. They are meant to drive low-side power devices in high-current (See Datasheet)", 13 PDB (out) "These outputs can drive the gates of N-channel power MOSFETs directly or they can drive the bases of power Darlingtons if some form of current limiting is used. They are meant to drive low-side power devices in high-current (See Datasheet)", 14 PDA (out) "These outputs can drive the gates of N-channel power MOSFETs directly or they can drive the bases of power Darlingtons if some form of current limiting is used. They are meant to drive low-side power devices in high-current (See Datasheet)", 15 GND (power) "All thresholds and outputs are referred to the GND pin except for the PD and PU outputs.", 16 PUC (oc) "These outputs are open-collector, high-voltage drivers that are meant to drive high-side power devices in high-current output stages.These are active low outputs, meaning that these outputs pull low to command a high-side (See Datasheet)", 17 PUB (oc) "These outputs are open-collector, high-voltage drivers that are meant to drive high-side power devices in high-current output stages.These are active low outputs, meaning that these outputs pull low to command a high-side (See Datasheet)", 18 PUA (oc) "These outputs are open-collector, high-voltage drivers that are meant to drive high-side power devices in high-current output stages.These are active low outputs, meaning that these outputs pull low to command a high-side (See Datasheet)", 19 VCC (power) "This device operates with supplies between 10 V and 18 V. Under-voltage lockout keeps all outputs off below 7.5 V, insuring that the output transistors never turn on until full drive capability is available. Bypass VCC to (See Datasheet)", 20 TACH-OUT (out) "Any change in the H1, H2, or H3 inputs loads data from these inputs into the position sensor latches. At the same time data is loaded, a fixed-width 5-V pulse is triggered on TACH-OUT. The average value of the voltage on (See Datasheet)", 21 RC-BRAKE (in) "Each time the TACH-OUT pulses, the capacitor tied to RC-BRAKE discharges from approximately 3.33 V down to 1.67 V through a resistor. The tachometer pulse width is approximately T = 0.67 RT CT, where RT and CT are a resistor (See Datasheet)", 22 QUAD SEL (in) "The device can chop power devices in either of two modes, referred to as "two-quadrant" (Quad Sellow) and "four quadrant" (Quad Sel high). When two-quadrant chopping, the pull-down power devices are chopped by the output of (See Datasheet)", 23 OV-COAST (in) "This input can be used as an over-voltage shut-down input, as a coast input, or both. This input can be driven by TTL, 5-V CMOS, or 12-V CMOS.", 24 SSTART (in) "Any time that VCC drops below threshold or the sensed current exceeds the over-current threshold, the soft-start latch is set. When set, it turns on a transistor that pulls down on SSTART. Normally, a capacitor is connected (See Datasheet)", 25 RC-OSC "The UC3625 can regulate motor current using fixed-frequency pulse width modulation (PWM). The RC-OSC pin sets oscillator frequency by means of timing resistor ROSC from the RC-OSC pin to VREF and capacitor COSC from RC-OSC (See Datasheet)", 26 PWM IN (in) "E/A IN(+) and E/A IN(-) are not internally committed to allow for a wide variety of uses. They can be connected to the ISENSE, to TACH-OUT through a filter, to an external command voltage, to a D/A converter for computer (See Datasheet)", 27 E/A OUT (io) "E/A IN(+) and E/A IN(-) are not internally committed to allow for a wide variety of uses. They can be connected to the ISENSE, to TACH-OUT through a filter, to an external command voltage, to a D/A converter for computer (See Datasheet)", 28 E/A IN(-) (in) "E/A IN(+) and E/A IN(-) are not internally committed to allow for a wide variety of uses. They can be connected to the ISENSE, to TACH-OUT through a filter, to an external command voltage, to a D/A converter for computer (See Datasheet)"